# EAGLE library part SN74CB3Q3384 (library musia)
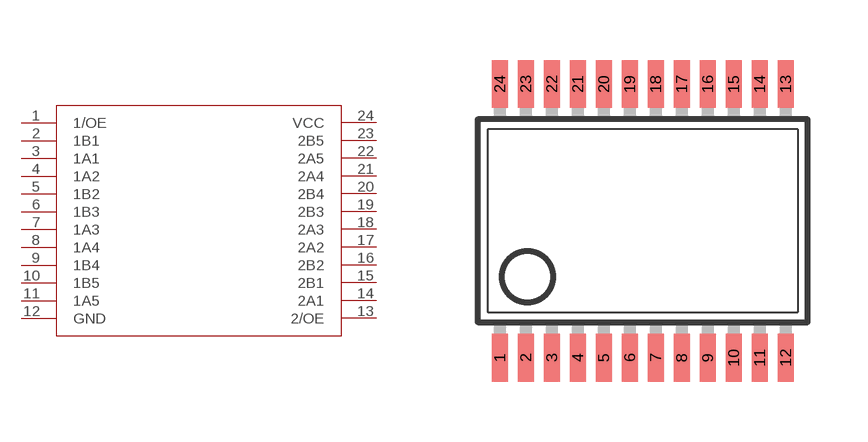
[diagram p1: symbol with the pads of SSOP24; footprint SSOP24]

Designator prefix -

## SN74CB3Q3384  [SSOP24]
1  1/OE
2  1B1
3  1A1
4  1A2
5  1B2
6  1B3
7  1A3
8  1A4
9  1B4
10  1B5
11  1A5
12  GND
13  2/OE
14  2A1
15  2B1
16  2B2
17  2A2
18  2A3
19  2B3
20  2B4
21  2A4
22  2A5
23  2B5
24  VCC

## Footprint SSOP24 (pad centres in mm)
Small Shrink Outline Package SOT340-1 / JEDEC MO-150AG
smd 0.4 x 1.2: 1 -3.575,-3.42; 2 -2.925,-3.42; 3 -2.275,-3.42; 4 -1.625,-3.42; 5 -0.975,-3.42; 6 -0.325,-3.42; 7 0.325,-3.42; 8 0.975,-3.42; 9 1.625,-3.42; 10 2.275,-3.42; 11 2.925,-3.42; 12 3.575,-3.42; 13 3.575,3.42; 14 2.925,3.42; 15 2.275,3.42; 16 1.625,3.42; 17 0.975,3.42; 18 0.325,3.42; 19 -0.325,3.42; 20 -0.975,3.42; 21 -1.625,3.42; 22 -2.275,3.42; 23 -2.925,3.42; 24 -3.575,3.42